# Altium footprint library SN74AVC4T245RSVR.PcbLib: 1 footprints
Each footprint in its own frame and in the unit in brackets; x right, y up, seen from the top. Pads: shape width x height; smd on the part's side, far side on the other; paste and mask are expansions set on the pad; w line width, h text height; cw(c..) or ccw(c..) is an arc to the next point about the centre after c.
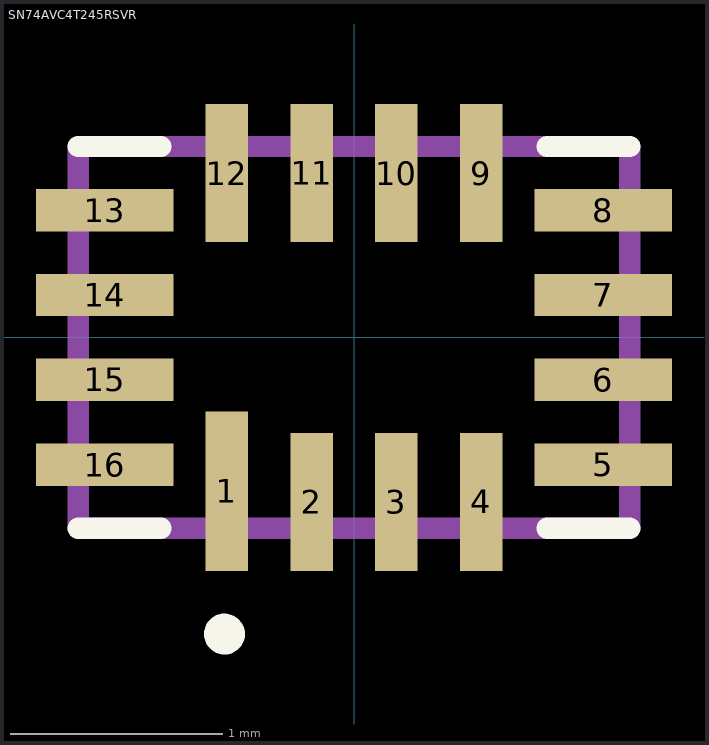
[diagram p0: the footprint, top view; thin cyan lines are the x and y axes]

## SN74AVC4T245RSVR [mm]
pads (16):
  rect 0.2x0.75 smd: 1(-0.6,-0.725)
  rect 0.2x0.65 smd: 2(-0.2,-0.775) 3(0.2,-0.775) 4(0.6,-0.775) 9(0.6,0.775) 10(0.2,0.775) 11(-0.2,0.775) 12(-0.6,0.775)
  rect 0.65x0.2 smd: 5(1.175,-0.6) 6(1.175,-0.2) 7(1.175,0.2) 8(1.175,0.6) 13(-1.175,0.6) 14(-1.175,0.2) 15(-1.175,-0.2) 16(-1.175,-0.6)
Top Overlay:
  circle w0.1: c-0.611,-1.398 r0.046
  lines w0.1: -1.3,-0.9 -0.909,-0.9 ; -1.3,0.9 -0.909,0.9 ; 0.909,-0.9 1.3,-0.9 ; 0.909,0.9 1.3,0.9
Mechanical 15:
  lines w0.1: -1.3,-0.9 1.3,-0.9 1.3,0.9 -1.3,0.9 -1.3,-0.9
3D body "SN74LVC138ARSVR.stp": height 0.55, standoff 0, extent -1.3,-0.9 1.3,0.9